# EAGLE library part WS2818 (library Sparky)
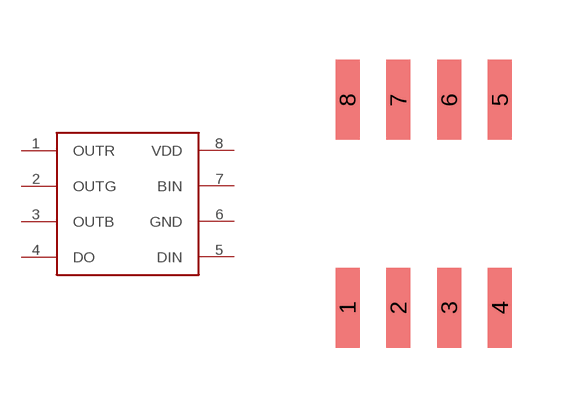
[diagram p25: symbol with the pads of SO08; footprint SO08]

Designator prefix -

## WS2818  [SO08]
1  OUTR
2  OUTG
3  OUTB
4  DO
5  DIN
6  GND
7  BIN
8  VDD

## Footprint SO08 (pad centres in mm)
Small Outline Package 8 NS Package M08A
smd 0.6 x 2: 1 -1.905,-2.6; 2 -0.635,-2.6; 3 0.635,-2.6; 4 1.905,-2.6; 5 1.905,2.6; 6 0.635,2.6; 7 -0.635,2.6; 8 -1.905,2.6